# Altium footprint library TO254P470X1028X1955-3P.PcbLib: 1 footprints
Each footprint in its own frame and in the unit in brackets; x right, y up, seen from the top. Pads: shape width x height; smd on the part's side, far side on the other; paste and mask are expansions set on the pad; w line width, h text height; cw(c..) or ccw(c..) is an arc to the next point about the centre after c.
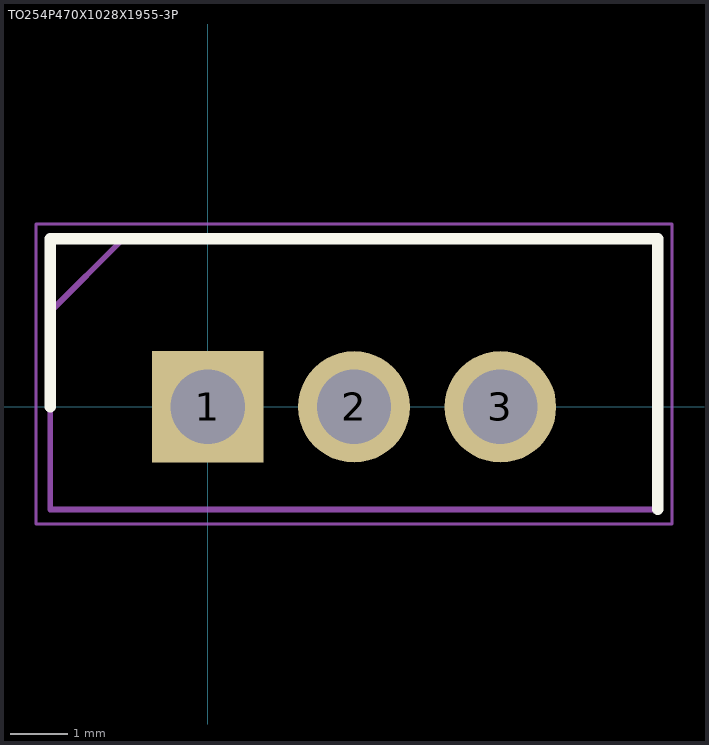
[diagram p0: the footprint, top view; thin cyan lines are the x and y axes]

## TO254P470X1028X1955-3P [mm]
pads (3):
  rect 1.935x1.935 / inner round 1.935 / far side rect 1.935x1.935 hole 1.29: 1(0,0)
  round 1.935 hole 1.29: 2(2.54,0) 3(5.08,0)
Top Overlay:
  lines w0.2: -2.73,0 -2.73,2.92 7.81,2.92 7.81,-1.78
Mechanical 15:
  lines w0.1: -2.73,1.65 -1.46,2.92 ; -2.73,-1.78 7.81,-1.78 7.81,2.92 -2.73,2.92 -2.73,-1.78
Mechanical 20:
  lines w0.05: -2.98,-2.03 8.06,-2.03 8.06,3.17 -2.98,3.17 -2.98,-2.03